# Altium footprint library WCD9320.PcbLib: 1 footprints
Each footprint in its own frame and in the unit in brackets; x right, y up, seen from the top. Pads: shape width x height; smd on the part's side, far side on the other; paste and mask are expansions set on the pad; w line width, h text height; cw(c..) or ccw(c..) is an arc to the next point about the centre after c.
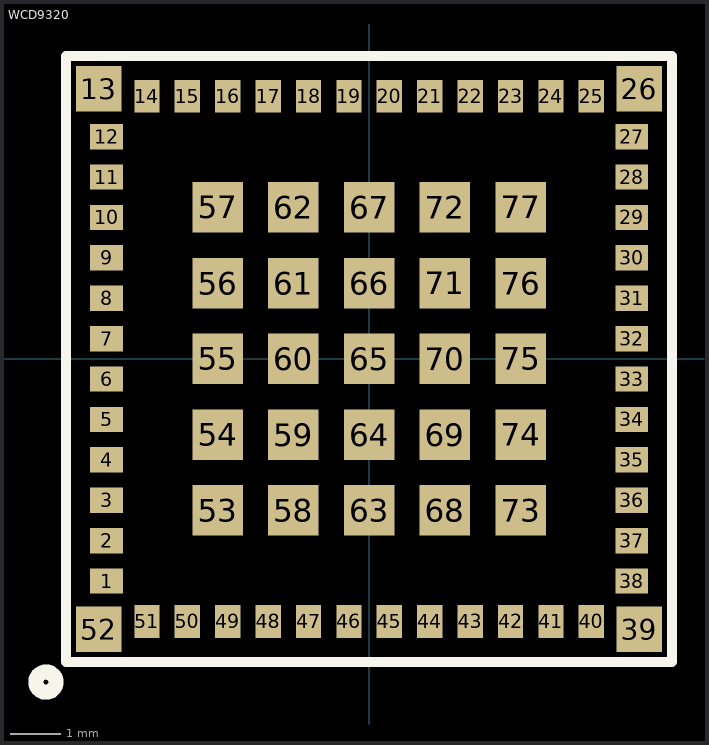
[diagram p0: the footprint, top view; thin cyan lines are the x and y axes]

## WCD9320 [mm]
pads (77):
  rect 0.65x0.5 smd: 1(-5.2,-4.4) 2(-5.2,-3.6) 3(-5.2,-2.8) 4(-5.2,-2) 5(-5.2,-1.2) 6(-5.2,-0.4) 7(-5.2,0.4) 8(-5.2,1.2) 9(-5.2,2) 10(-5.2,2.8) 11(-5.2,3.6) 12(-5.2,4.4) 27(5.2,4.4) 28(5.2,3.6) 29(5.2,2.8) 30(5.2,2) 31(5.2,1.2) 32(5.2,0.4) 33(5.2,-0.4) 34(5.2,-1.2) 35(5.2,-2) 36(5.2,-2.8) 37(5.2,-3.6) 38(5.2,-4.4)
  rect 0.9x0.9 smd: 13(-5.35,5.35) 26(5.35,5.35) 39(5.35,-5.35) 52(-5.35,-5.35)
  rect 0.5x0.65 smd: 14(-4.4,5.2) 15(-3.6,5.2) 16(-2.8,5.2) 17(-2,5.2) 18(-1.2,5.2) 19(-0.4,5.2) 20(0.4,5.2) 21(1.2,5.2) 22(2,5.2) 23(2.8,5.2) 24(3.6,5.2) 25(4.4,5.2) 40(4.4,-5.2) 41(3.6,-5.2) 42(2.8,-5.2) 43(2,-5.2) 44(1.2,-5.2) 45(0.4,-5.2) 46(-0.4,-5.2) 47(-1.2,-5.2) 48(-2,-5.2) 49(-2.8,-5.2) 50(-3.6,-5.2) 51(-4.4,-5.2)
  rect 1x1 smd: 53(-3,-3) 54(-3,-1.5) 55(-3,0) 56(-3,1.5) 57(-3,3) 58(-1.5,-3) 59(-1.5,-1.5) 60(-1.5,0) 61(-1.5,1.5) 62(-1.5,3) 63(0,-3) 64(0,-1.5) 65(0,0) 66(0,1.5) 67(0,3) 68(1.5,-3) 69(1.5,-1.5) 70(1.5,0) 71(1.5,1.5) 72(1.5,3) 73(3,-3) 74(3,-1.5) 75(3,0) 76(3,1.5) 77(3,3)
Top Overlay:
  circle w0.3: c-6.4,-6.4 r0.2
  lines w0.2: -6,-6 -6,6 6,6 6,-6 -6,-6
3D body: height 1, standoff 0, extent -6,-6 6,6